# Altium footprint library SOP63P600X175-16N.PcbLib: 1 footprints
Each footprint in its own frame and in the unit in brackets; x right, y up, seen from the top. Pads: shape width x height; smd on the part's side, far side on the other; paste and mask are expansions set on the pad; w line width, h text height; cw(c..) or ccw(c..) is an arc to the next point about the centre after c.
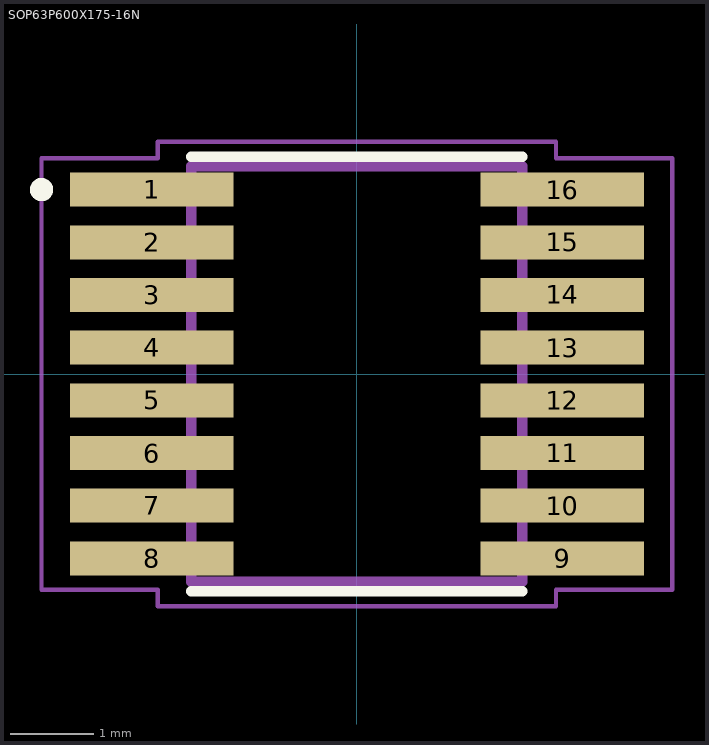
[diagram p0: the footprint, top view; thin cyan lines are the x and y axes]

## SOP63P600X175-16N [mm]
pads (16):
  rect 1.97x0.41 smd: 1(-2.475,2.222) 2(-2.475,1.587) 3(-2.475,0.953) 4(-2.475,0.318) 5(-2.475,-0.318) 6(-2.475,-0.953) 7(-2.475,-1.587) 8(-2.475,-2.222) 9(2.475,-2.222) 10(2.475,-1.587) 11(2.475,-0.953) 12(2.475,-0.318) 13(2.475,0.318) 14(2.475,0.953) 15(2.475,1.587) 16(2.475,2.222)
Top Overlay:
  circle w0.14: c-3.8,2.222 r0.07
  lines w0.127: -1.994,-2.616 1.994,-2.616 ; -1.994,2.616 1.994,2.616
Mechanical 4:
  lines w0.127: -1.994,-2.502 -1.994,2.502 ; -1.994,-2.502 1.994,-2.502 ; -1.994,-2.502 -1.994,2.502 ; -1.994,-2.502 1.994,-2.502 ; -1.994,2.502 1.994,2.502 ; -1.994,2.502 1.994,2.502 ; 1.994,-2.502 1.994,2.502 ; 1.994,-2.502 1.994,2.502
Mechanical 16:
  lines w0.05: -3.8,-2.6 -2.4,-2.6 -2.4,-2.8 2.4,-2.8 2.4,-2.6 3.8,-2.6 3.8,2.6 2.4,2.6 2.4,2.8 -2.4,2.8 -2.4,2.6 -3.8,2.6 -3.8,-2.6